# EAGLE library part DS32KHZ (library dallas-rtc)
32.768kHz Temperature-Compensated Crystal Oscillator
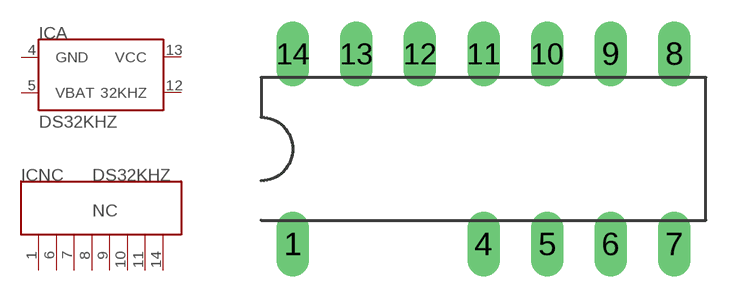
[diagram p0: symbol with the pads of EDIL14; footprint EDIL14]

Designator prefix IC; gates A=DS32KHZ NC=DS32KHZNC

## DS32KHZ  [EDIL14]
1  NC:NC  nc
4  A:GND  pwr
5  A:VBAT  pwr
6  NC:NC  nc
7  NC:NC  nc
8  NC:NC  nc
9  NC:NC  nc
10  NC:NC  nc
11  NC:NC  nc
12  A:32KHZ  out
13  A:VCC  pwr
14  NC:NC  nc

## Footprint EDIL14 (pad centres in mm)
Dual In Line Package
drill 0.8 long: 1 -7.62,-3.81; 4 0,-3.81; 5 2.54,-3.81; 6 5.08,-3.81; 7 7.62,-3.81; 8 7.62,3.81; 9 5.08,3.81; 10 2.54,3.81; 11 0,3.81; 12 -2.54,3.81; 13 -5.08,3.81; 14 -7.62,3.81